# EAGLE library part ESP32DEVKITV1 (library TTGO T-Beam V10)
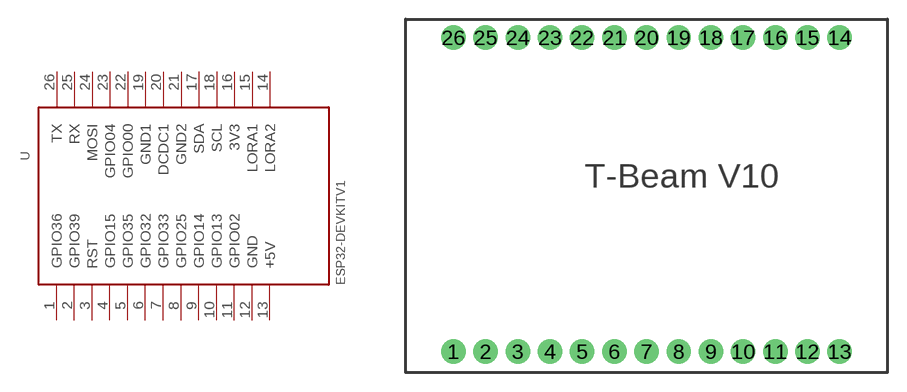
[diagram p0: symbol with the pads of ESP32-DEVKITV1; footprint ESP32-DEVKITV1]

Designator prefix -

## ESP32DEVKITV1  [ESP32-DEVKITV1]
1  GPIO36
2  GPIO39
3  RST
4  GPIO15
5  GPIO35
6  GPIO32
7  GPIO33
8  GPIO25
9  GPIO14
10  GPIO13
11  GPIO02
12  GND
13  +5V
14  LORA2
15  LORA1
16  3V3
17  SDA
18  SCL
19  GND1
20  DCDC1
21  GND2
22  GPIO00
23  GPIO04
24  MOSI
25  RX
26  TX

## Footprint ESP32-DEVKITV1 (pad centres in mm)
drill 1 pad 1.93: 1 -22.87,-13.54; 2 -20.33,-13.54; 3 -17.79,-13.54; 4 -15.25,-13.54; 5 -12.71,-13.54; 6 -10.17,-13.54; 7 -7.63,-13.54; 8 -5.09,-13.54; 9 -2.55,-13.54; 10 -0.01,-13.54; 11 2.53,-13.54; 12 5.07,-13.54; 13 7.61,-13.54; 14 7.61,11.23; 15 5.07,11.23; 16 2.53,11.23; 17 -0.01,11.23; 18 -2.55,11.23; 19 -5.09,11.23; 20 -7.63,11.23; 21 -10.17,11.23; 22 -12.71,11.23; 23 -15.25,11.23; 24 -17.79,11.23; 25 -20.33,11.23; 26 -22.87,11.23